# Altium footprint library 1190301.PcbLib: 1 footprints
Each footprint in its own frame and in the unit in brackets; x right, y up, seen from the top. Pads: shape width x height; smd on the part's side, far side on the other; paste and mask are expansions set on the pad; w line width, h text height; cw(c..) or ccw(c..) is an arc to the next point about the centre after c.
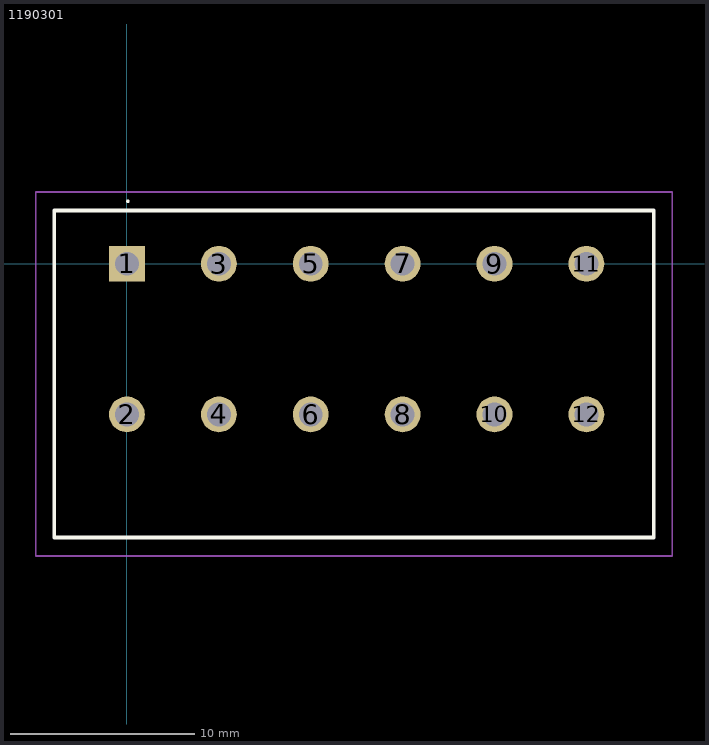
[diagram p0: the footprint, top view; thin cyan lines are the x and y axes]

## 1190301 [mm]
pads (12):
  rect 1.95x1.95 hole 1.3: 1(0,0)
  round 1.95 hole 1.3: 2(0,-8.2) 3(5,0) 4(5,-8.2) 5(10,0) 6(10,-8.2) 7(15,0) 8(15,-8.2) 9(20,0) 10(20,-8.2) 11(25,0) 12(25,-8.2)
Top Overlay:
  lines w0.1: 0,3.4 0,3.4 ; 0,3.4 ccw(c0.05,3.4) 0.1,3.4 ; 0,3.4 cw(c0.05,3.4) 0.1,3.4 ; 0.1,3.4 0.1,3.4
  lines w0.2: -3.96,-14.9 28.67,-14.9 28.67,2.9 -3.96,2.9 -3.96,-14.9
Mechanical 15:
  lines w0.1: -3.96,-14.9 28.67,-14.9 28.67,2.9 -3.96,2.9 -3.96,-14.9
Mechanical 20:
  lines w0.1: -4.96,-15.9 29.67,-15.9 29.67,3.9 -4.96,3.9 -4.96,-15.9